# Altium integrated library Cypress PSoC 5.IntLib: 32 symbols (part 5 of 6)
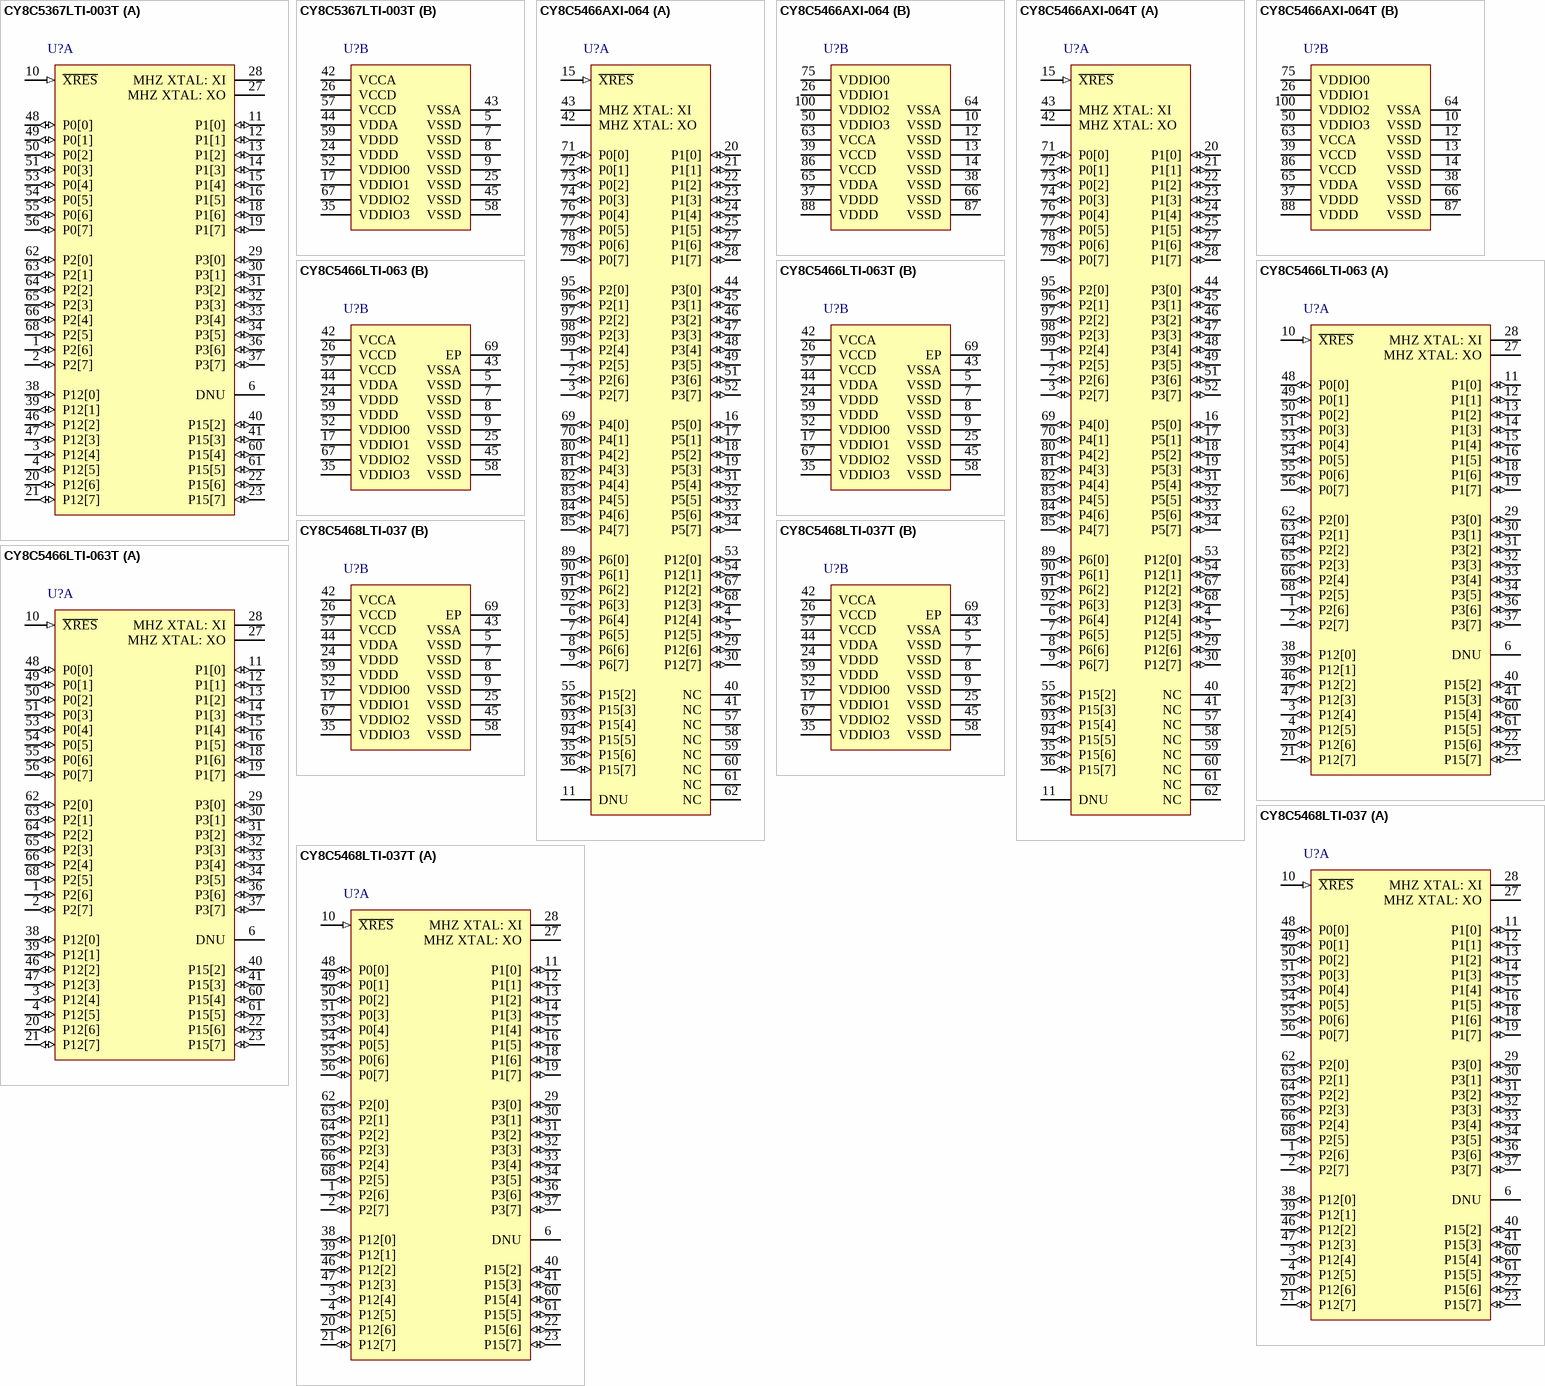
[diagram p8: symbols CY8C5367LTI-003T to CY8C5468LTI-037T]

## CY8C5466AXI-064
designator U?
PSoC Programmable System-on-Chip, 64 KB Flash, 60 GPIOs, 2.7 to 5.5 V, AX100, 100-Pin (14 × 14 × 1.4 mm) TQFP; Manufacturer: Cypress; PartNumber: CY8C5466AXI-064; CPU Core: ARM Cortex-M3; EEPROM (KB): 2; Flash (KB): 64; LCD Direct Drive: Y; Max. Operating Voltage (V): 5.5; Min. Operating Voltage (V): 2.7; No. of Dedicated Digital Filter Blocks: 1; No. of GPIOs: 60; No. of Programmable Universal Digital Blocks: 24; Packing: Tray; Rating: I; SRAM (KB): 16; DatasheetVersion: Rev. *D; PackageVersion: *D; PackageReference: AX100; PackageDescription: 100-Pin Thin Plastic Quad Flatpack, Body 14 x14 mm, Pitch 0.5 mm; Supplier 1: Digi-Key; Supplier Part Number 1: CY8C5466AXI-064-ND; Supplier 2: Farnell; Supplier Part Number 2: 2068511; Supplier 3: Newark; Supplier Part Number 3: 73T9074; Supplier 4: Mouser; Supplier Part Number 4: 727-CY8C5466AXI-064; Max. Operating Temp. (°C): 85; Min. Operating Temp. (°C): -40; Mounting Technology: Surface Mount; Code_JEDEC: MS-026; ComponentLink1Description: Manufacturer URL; ComponentLink1URL: http://www.cypress.com/; ComponentLink2Description: Datasheet; ComponentLink2URL: http://www.cypress.com/?docID=34817; ComponentLink3Description: Package Specification; ComponentLink3URL: http://www.cypress.com/?docID=35576; ComponentLink4Description: Product URL; ComponentLink4URL: http://www.cypress.com/?rID=38415
footprint CYP-AX100_N (QFN, 100-Leads, Body 14x14mm, Pitch 0.5mm, IPC Medium Density)
part A pins: 1 P2[5] (io), 2 P2[6] (io), 3 P2[7] (io), 4 P12[4] (io), 5 P12[5] (io), 6 P6[4] (io), 7 P6[5] (io), 8 P6[6] (io), 9 P6[7] (io), 11 DNU, 15 ~{XRES} (in), 16 P5[0] (io), 17 P5[1] (io), 18 P5[2] (io), 19 P5[3] (io), 20 P1[0] (io), 21 P1[1] (io), 22 P1[2] (io), 23 P1[3] (io), 24 P1[4] (io), 25 P1[5] (io), 27 P1[6] (io), 28 P1[7] (io), 29 P12[6] (io), 30 P12[7] (io), 31 P5[4] (io), 32 P5[5] (io), 33 P5[6] (io), 34 P5[7] (io), 35 P15[6] (io), 36 P15[7] (io), 40 NC, 41 NC, 42 MHZ XTAL: XO, 43 MHZ XTAL: XI, 44 P3[0] (io), 45 P3[1] (io), 46 P3[2] (io), 47 P3[3] (io), 48 P3[4] (io), 49 P3[5] (io), 51 P3[6] (io), 52 P3[7] (io), 53 P12[0] (io), 54 P12[1] (io), 55 P15[2] (io), 56 P15[3] (io), 57 NC, 58 NC, 59 NC, 60 NC, 61 NC, 62 NC, 67 P12[2] (io), 68 P12[3] (io), 69 P4[0] (io), 70 P4[1] (io), 71 P0[0] (io), 72 P0[1] (io), 73 P0[2] (io), 74 P0[3] (io), 76 P0[4] (io), 77 P0[5] (io), 78 P0[6] (io), 79 P0[7] (io), 80 P4[2] (io), 81 P4[3] (io), 82 P4[4] (io), 83 P4[5] (io), 84 P4[6] (io), 85 P4[7] (io), 89 P6[0] (io), 90 P6[1] (io), 91 P6[2] (io), 92 P6[3] (io), 93 P15[4] (io), 94 P15[5] (io), 95 P2[0] (io), 96 P2[1] (io), 97 P2[2] (io), 98 P2[3] (io), 99 P2[4] (io)
part B pins: 10 VSSD (power), 12 VSSD (power), 13 VSSD (power), 14 VSSD (power), 26 VDDIO1 (power), 37 VDDD (power), 38 VSSD (power), 39 VCCD (power), 50 VDDIO3 (power), 63 VCCA (power), 64 VSSA (power), 65 VDDA (power), 66 VSSD (power), 75 VDDIO0 (power), 86 VCCD (power), 87 VSSD (power), 88 VDDD (power), 100 VDDIO2 (power)

## CY8C5466AXI-064T
designator U?
PSoC Programmable System-on-Chip, 64 KB Flash, 60 GPIOs, 2.7 to 5.5 V, AX100, 100-Pin (14 × 14 × 1.4 mm) TQFP, Tape and Reel; Manufacturer: Cypress; PartNumber: CY8C5466AXI-064T; CPU Core: ARM Cortex-M3; EEPROM (KB): 2; Flash (KB): 64; LCD Direct Drive: Y; Max. Operating Voltage (V): 5.5; Min. Operating Voltage (V): 2.7; No. of Dedicated Digital Filter Blocks: 1; No. of GPIOs: 60; No. of Programmable Universal Digital Blocks: 24; Rating: I; SRAM (KB): 16; DatasheetVersion: Rev. *D; PackageVersion: *D; PackageReference: AX100; PackageDescription: 100-Pin Thin Plastic Quad Flatpack, Body 14 x14 mm, Pitch 0.5 mm; Supplier 1: Newark; Supplier Part Number 1: 89T5483; Supplier 2: Mouser; Supplier Part Number 2: 727-CY8C5466AXI-064T; Max. Operating Temp. (°C): 85; Min. Operating Temp. (°C): -40; Packing: Tape and Reel; Mounting Technology: Surface Mount; Code_JEDEC: MS-026; ComponentLink1Description: Manufacturer URL; ComponentLink1URL: http://www.cypress.com/; ComponentLink2Description: Datasheet; ComponentLink2URL: http://www.cypress.com/?docID=34817; ComponentLink3Description: Package Specification; ComponentLink3URL: http://www.cypress.com/?docID=35576; ComponentLink4Description: Product URL; ComponentLink4URL: http://www.cypress.com/?rID=38415
footprint CYP-AX100_N (QFN, 100-Leads, Body 14x14mm, Pitch 0.5mm, IPC Medium Density)
part A pins: 1 P2[5] (io), 2 P2[6] (io), 3 P2[7] (io), 4 P12[4] (io), 5 P12[5] (io), 6 P6[4] (io), 7 P6[5] (io), 8 P6[6] (io), 9 P6[7] (io), 11 DNU, 15 ~{XRES} (in), 16 P5[0] (io), 17 P5[1] (io), 18 P5[2] (io), 19 P5[3] (io), 20 P1[0] (io), 21 P1[1] (io), 22 P1[2] (io), 23 P1[3] (io), 24 P1[4] (io), 25 P1[5] (io), 27 P1[6] (io), 28 P1[7] (io), 29 P12[6] (io), 30 P12[7] (io), 31 P5[4] (io), 32 P5[5] (io), 33 P5[6] (io), 34 P5[7] (io), 35 P15[6] (io), 36 P15[7] (io), 40 NC, 41 NC, 42 MHZ XTAL: XO, 43 MHZ XTAL: XI, 44 P3[0] (io), 45 P3[1] (io), 46 P3[2] (io), 47 P3[3] (io), 48 P3[4] (io), 49 P3[5] (io), 51 P3[6] (io), 52 P3[7] (io), 53 P12[0] (io), 54 P12[1] (io), 55 P15[2] (io), 56 P15[3] (io), 57 NC, 58 NC, 59 NC, 60 NC, 61 NC, 62 NC, 67 P12[2] (io), 68 P12[3] (io), 69 P4[0] (io), 70 P4[1] (io), 71 P0[0] (io), 72 P0[1] (io), 73 P0[2] (io), 74 P0[3] (io), 76 P0[4] (io), 77 P0[5] (io), 78 P0[6] (io), 79 P0[7] (io), 80 P4[2] (io), 81 P4[3] (io), 82 P4[4] (io), 83 P4[5] (io), 84 P4[6] (io), 85 P4[7] (io), 89 P6[0] (io), 90 P6[1] (io), 91 P6[2] (io), 92 P6[3] (io), 93 P15[4] (io), 94 P15[5] (io), 95 P2[0] (io), 96 P2[1] (io), 97 P2[2] (io), 98 P2[3] (io), 99 P2[4] (io)
part B pins: 10 VSSD (power), 12 VSSD (power), 13 VSSD (power), 14 VSSD (power), 26 VDDIO1 (power), 37 VDDD (power), 38 VSSD (power), 39 VCCD (power), 50 VDDIO3 (power), 63 VCCA (power), 64 VSSA (power), 65 VDDA (power), 66 VSSD (power), 75 VDDIO0 (power), 86 VCCD (power), 87 VSSD (power), 88 VDDD (power), 100 VDDIO2 (power)

## CY8C5466LTI-063
designator U?
PSoC Programmable System-on-Chip, 64 KB Flash, 36 GPIOs, 2.7 to 5.5 V, 68-Pin QFN (LT68); Manufacturer: Cypress; PartNumber: CY8C5466LTI-063; CPU Core: ARM Cortex-M3; EEPROM (KB): 2; Flash (KB): 64; LCD Direct Drive: Y; Max. Operating Voltage (V): 5.5; Min. Operating Voltage (V): 2.7; No. of Dedicated Digital Filter Blocks: 1; No. of GPIOs: 36; No. of Programmable Universal Digital Blocks: 24; Packing: Tray; Rating: I; SRAM (KB): 16; DatasheetVersion: Rev. *D; PackageVersion: Rev. *E; PackageReference: LT68; PackageDescription: 68-Pin QFN, Body 8.00 x 8.00 mm, Pitch 0.40 mm; Supplier 1: Digi-Key; Supplier Part Number 1: 428-3138-ND; Supplier 2: Farnell; Supplier Part Number 2: 2082975; Supplier 3: Newark; Supplier Part Number 3: 89T5484; Supplier 4: Mouser; Supplier Part Number 4: 727-CY8C5466LTI-063; Max. Operating Temp. (°C): 85; Min. Operating Temp. (°C): -40; Mounting Technology: Surface Mount; Code_JEDEC: MO-220; ComponentLink1Description: Manufacturer URL; ComponentLink1URL: http://www.cypress.com/; ComponentLink2Description: Datasheet; ComponentLink2URL: http://www.cypress.com/?docID=34817; ComponentLink3Description: Package Specification; ComponentLink3URL: http://www.cypress.com/?docID=38892; ComponentLink4Description: Product URL; ComponentLink4URL: http://www.cypress.com/?rID=38415
footprint CYP-LT68_N (QFN, 68-Leads, Body 8x8mm, Pitch 0.4mm, Thermal Pad 5.7x5.7mm, IPC Medium Density)
part A pins: 1 P2[6] (io), 2 P2[7] (io), 3 P12[4] (io), 4 P12[5] (io), 6 DNU, 10 ~{XRES} (in) "External reset pin. Active low with internal pull-up", 11 P1[0] (io), 12 P1[1] (io), 13 P1[2] (io), 14 P1[3] (io), 15 P1[4] (io), 16 P1[5] (io), 18 P1[6] (io), 19 P1[7] (io), 20 P12[6] (io), 21 P12[7] (io), 22 P15[6] (io), 23 P15[7] (io), 27 MHZ XTAL: XO "4 to 25 MHz crystal oscillator pin. If a crystal is not used then Xi must be shorted to ground and Xo must be left floating.", 28 MHZ XTAL: XI "4 to 25 MHz crystal oscillator pin. If a crystal is not used then Xi must be shorted to ground and Xo must be left floating.", 29 P3[0] (io), 30 P3[1] (io), 31 P3[2] (io), 32 P3[3] (io), 33 P3[4] (io), 34 P3[5] (io), 36 P3[6] (io), 37 P3[7] (io), 38 P12[0] (io), 39 P12[1] (io), 40 P15[2] (io), 41 P15[3] (io), 46 P12[2] (io), 47 P12[3] (io), 48 P0[0] (io), 49 P0[1] (io), 50 P0[2] (io), 51 P0[3] (io), 53 P0[4] (io), 54 P0[5] (io), 55 P0[6] (io), 56 P0[7] (io), 60 P15[4] (io), 61 P15[5] (io), 62 P2[0] (io), 63 P2[1] (io), 64 P2[2] (io), 65 P2[3] (io), 66 P2[4] (io), 68 P2[5] (io)
part B pins: 5 VSSD (power) "Ground for all digital logic and I/O pins", 7 VSSD (power) "Ground for all digital logic and I/O pins", 8 VSSD (power) "Ground for all digital logic and I/O pins", 9 VSSD (power) "Ground for all digital logic and I/O pins", 17 VDDIO1 (power) "Supply for I/O pins. Each VDDIO must be tied to a valid operating voltage (2.7 V to 5.5 V), and must be less than or equal to Vdda.", 24 VDDD (power) "Supply for all digital peripherals and digital core regulator. VDDD must be less than or equal to VDDA", 25 VSSD (power) "Ground for all digital logic and I/O pins", 26 VCCD (power) "Output of digital core regulator and input to digital core. The two Vccd pins must be shorted together, with the trace between them as short as possible, and a 1 uF capacitor to VSSD (10 uF is required for sleep mode. See (See Datasheet)", 35 VDDIO3 (power) "Supply for I/O pins. Each VDDIO must be tied to a valid operating voltage (2.7 V to 5.5 V), and must be less than or equal to Vdda.", 42 VCCA (power) "Output of analog core regulator and input to analog core. Requires a 1 µF capacitor to VSSA (10 µF is required for sleep mode. Regulator output not for external use.", 43 VSSA (power) "Ground for all analog peripherals.", 44 VDDA (power) "Supply for all analog peripherals and analog core regulator.", 45 VSSD (power) "Ground for all digital logic and I/O pins", 52 VDDIO0 (power) "Supply for I/O pins. Each VDDIO must be tied to a valid operating voltage (2.7 V to 5.5 V), and must be less than or equal to Vdda.", 57 VCCD (power) "Output of digital core regulator and input to digital core. The two Vccd pins must be shorted together, with the trace between them as short as possible, and a 1 µF capacitor to VSSD (10 µF is 58 required for sleepmode); see (See Datasheet)", 58 VSSD (power) "Ground for all digital logic and I/O pins", 59 VDDD (power) "Supply for all digital peripherals and digital core regulator. VDDD must be less than or equal to VDDA", 67 VDDIO2 (power) "Supply for I/O pins. Each VDDIO must be tied to a valid operating voltage (2.7 V to 5.5 V), and must be less than or equal to Vdda.", 69 EP (power)

## CY8C5466LTI-063T
designator U?
PSoC Programmable System-on-Chip, 64 KB Flash, 36 GPIOs, 2.7 to 5.5 V, LT68, 68-Pin QFN, Tape and Reel; Manufacturer: Cypress; PartNumber: CY8C5466LTI-063T; CPU Core: ARM Cortex-M3; EEPROM (KB): 2; Flash (KB): 64; LCD Direct Drive: Y; Max. Operating Voltage (V): 5.5; Min. Operating Voltage (V): 2.7; No. of Dedicated Digital Filter Blocks: 1; No. of GPIOs: 36; No. of Programmable Universal Digital Blocks: 24; Rating: I; SRAM (KB): 16; DatasheetVersion: Rev. *D; PackageVersion: Rev. *E; PackageReference: LT68; PackageDescription: 68-Pin QFN, Body 8.00 x 8.00 mm, Pitch 0.40 mm; Supplier 1: Newark; Supplier Part Number 1: 89T5485; Supplier 2: Mouser; Supplier Part Number 2: 727-CY8C5466LTI-063T; Max. Operating Temp. (°C): 85; Min. Operating Temp. (°C): -40; Packing: Tape and Reel; Mounting Technology: Surface Mount; Code_JEDEC: MO-220; ComponentLink1Description: Manufacturer URL; ComponentLink1URL: http://www.cypress.com/; ComponentLink2Description: Datasheet; ComponentLink2URL: http://www.cypress.com/?docID=34817; ComponentLink3Description: Package Specification; ComponentLink3URL: http://www.cypress.com/?docID=38892; ComponentLink4Description: Product URL; ComponentLink4URL: http://www.cypress.com/?rID=38415
footprint CYP-LT68_N (QFN, 68-Leads, Body 8x8mm, Pitch 0.4mm, Thermal Pad 5.7x5.7mm, IPC Medium Density)
part A pins: 1 P2[6] (io), 2 P2[7] (io), 3 P12[4] (io), 4 P12[5] (io), 6 DNU, 10 ~{XRES} (in) "External reset pin. Active low with internal pull-up", 11 P1[0] (io), 12 P1[1] (io), 13 P1[2] (io), 14 P1[3] (io), 15 P1[4] (io), 16 P1[5] (io), 18 P1[6] (io), 19 P1[7] (io), 20 P12[6] (io), 21 P12[7] (io), 22 P15[6] (io), 23 P15[7] (io), 27 MHZ XTAL: XO "4 to 25 MHz crystal oscillator pin. If a crystal is not used then Xi must be shorted to ground and Xo must be left floating.", 28 MHZ XTAL: XI "4 to 25 MHz crystal oscillator pin. If a crystal is not used then Xi must be shorted to ground and Xo must be left floating.", 29 P3[0] (io), 30 P3[1] (io), 31 P3[2] (io), 32 P3[3] (io), 33 P3[4] (io), 34 P3[5] (io), 36 P3[6] (io), 37 P3[7] (io), 38 P12[0] (io), 39 P12[1] (io), 40 P15[2] (io), 41 P15[3] (io), 46 P12[2] (io), 47 P12[3] (io), 48 P0[0] (io), 49 P0[1] (io), 50 P0[2] (io), 51 P0[3] (io), 53 P0[4] (io), 54 P0[5] (io), 55 P0[6] (io), 56 P0[7] (io), 60 P15[4] (io), 61 P15[5] (io), 62 P2[0] (io), 63 P2[1] (io), 64 P2[2] (io), 65 P2[3] (io), 66 P2[4] (io), 68 P2[5] (io)
part B pins: 5 VSSD (power) "Ground for all digital logic and I/O pins", 7 VSSD (power) "Ground for all digital logic and I/O pins", 8 VSSD (power) "Ground for all digital logic and I/O pins", 9 VSSD (power) "Ground for all digital logic and I/O pins", 17 VDDIO1 (power) "Supply for I/O pins. Each VDDIO must be tied to a valid operating voltage (2.7 V to 5.5 V), and must be less than or equal to Vdda.", 24 VDDD (power) "Supply for all digital peripherals and digital core regulator. VDDD must be less than or equal to VDDA", 25 VSSD (power) "Ground for all digital logic and I/O pins", 26 VCCD (power) "Output of digital core regulator and input to digital core. The two Vccd pins must be shorted together, with the trace between them as short as possible, and a 1 uF capacitor to VSSD (10 uF is required for sleep mode. See (See Datasheet)", 35 VDDIO3 (power) "Supply for I/O pins. Each VDDIO must be tied to a valid operating voltage (2.7 V to 5.5 V), and must be less than or equal to Vdda.", 42 VCCA (power) "Output of analog core regulator and input to analog core. Requires a 1 µF capacitor to VSSA (10 µF is required for sleep mode. Regulator output not for external use.", 43 VSSA (power) "Ground for all analog peripherals.", 44 VDDA (power) "Supply for all analog peripherals and analog core regulator.", 45 VSSD (power) "Ground for all digital logic and I/O pins", 52 VDDIO0 (power) "Supply for I/O pins. Each VDDIO must be tied to a valid operating voltage (2.7 V to 5.5 V), and must be less than or equal to Vdda.", 57 VCCD (power) "Output of digital core regulator and input to digital core. The two Vccd pins must be shorted together, with the trace between them as short as possible, and a 1 µF capacitor to VSSD (10 µF is 58 required for sleepmode); see (See Datasheet)", 58 VSSD (power) "Ground for all digital logic and I/O pins", 59 VDDD (power) "Supply for all digital peripherals and digital core regulator. VDDD must be less than or equal to VDDA", 67 VDDIO2 (power) "Supply for I/O pins. Each VDDIO must be tied to a valid operating voltage (2.7 V to 5.5 V), and must be less than or equal to Vdda.", 69 EP (power)

## CY8C5468LTI-037
designator U?
PSoC Programmable System-on-Chip, 256 KB Flash, 36 GPIOs, 2.7 to 5.5 V, LT68, 68-Pin QFN; Manufacturer: Cypress; PartNumber: CY8C5468LTI-037; CPU Core: ARM Cortex-M3; EEPROM (KB): 2; Flash (KB): 256; LCD Direct Drive: Y; Max. Operating Voltage (V): 5.5; Min. Operating Voltage (V): 2.7; No. of Dedicated Digital Filter Blocks: 1; No. of GPIOs: 36; No. of Programmable Universal Digital Blocks: 24; Packing: Tray; Rating: I; SRAM (KB): 64; DatasheetVersion: Rev. *D; PackageVersion: Rev. *E; PackageReference: LT68; PackageDescription: 68-Pin QFN, Body 8.00 x 8.00 mm, Pitch 0.40 mm; Supplier 1: Digi-Key; Supplier Part Number 1: 428-3140-ND; Supplier 2: Farnell; Supplier Part Number 2: 2082977; Supplier 3: Newark; Supplier Part Number 3: 88T3066; Supplier 4: Newark; Supplier Part Number 4: 89T5490; Supplier 5: Mouser; Supplier Part Number 5: 727-CY8C5468LTI-037; Max. Operating Temp. (°C): 85; Min. Operating Temp. (°C): -40; Mounting Technology: Surface Mount; Code_JEDEC: MO-220; ComponentLink1Description: Manufacturer URL; ComponentLink1URL: http://www.cypress.com/; ComponentLink2Description: Datasheet; ComponentLink2URL: http://www.cypress.com/?docID=34817; ComponentLink3Description: Package Specification; ComponentLink3URL: http://www.cypress.com/?docID=38892; ComponentLink4Description: Product URL; ComponentLink4URL: http://www.cypress.com/?rID=38415
footprint CYP-LT68_N (QFN, 68-Leads, Body 8x8mm, Pitch 0.4mm, Thermal Pad 5.7x5.7mm, IPC Medium Density)
part A pins: 1 P2[6] (io), 2 P2[7] (io), 3 P12[4] (io), 4 P12[5] (io), 6 DNU, 10 ~{XRES} (in) "External reset pin. Active low with internal pull-up.", 11 P1[0] (io), 12 P1[1] (io), 13 P1[2] (io), 14 P1[3] (io), 15 P1[4] (io), 16 P1[5] (io), 18 P1[6] (io), 19 P1[7] (io), 20 P12[6] (io), 21 P12[7] (io), 22 P15[6] (io), 23 P15[7] (io), 27 MHZ XTAL: XO "4 to 25 MHz crystal oscillator pin. If a crystal is not used then Xi  must be shorted to ground and Xo must be left floating.", 28 MHZ XTAL: XI "4 to 25 MHz crystal oscillator pin. If a crystal is not used then Xi  must be shorted to ground and Xo must be left floating.", 29 P3[0] (io), 30 P3[1] (io), 31 P3[2] (io), 32 P3[3] (io), 33 P3[4] (io), 34 P3[5] (io), 36 P3[6] (io), 37 P3[7] (io), 38 P12[0] (io), 39 P12[1] (io), 40 P15[2] (io), 41 P15[3] (io), 46 P12[2] (io), 47 P12[3] (io), 48 P0[0] (io) "GPIO.General purpose I/O pin provides interfaces to the CPU, digital  peripherals, analog peripherals, interrupts, LCD segment drive, and CapSense[6].OpAmp2outHigh current output of uncommitted opamp[6].", 49 P0[1] (io) "GPIO.General purpose I/O pin provides interfaces to the CPU, digital  peripherals, analog peripherals, interrupts, LCD segment drive, and CapSense[6].OpAmp0outHigh current output of uncommitted opamp[6].", 50 P0[2] (io) "GPIO.General purpose I/O pin provides interfaces to the CPU, digital  peripherals, analog peripherals, interrupts, LCD segment drive, and CapSense[6].OpAmp0+Noninverting input to uncommitted opamp.SAR1ref.  External (See Datasheet)", 51 P0[3] (io) "GPIO.General purpose I/O pin provides interfaces to the CPU, digital  peripherals, analog peripherals, interrupts, LCD segment drive, and CapSense[6].OpAmp0-Inverting input to uncommitted opamp. Extref1External reference (See Datasheet)", 53 P0[4] (io), 54 P0[5] (io), 55 P0[6] (io), 56 P0[7] (io), 60 P15[4] (io), 61 P15[5] (io), 62 P2[0] (io), 63 P2[1] (io), 64 P2[2] (io), 65 P2[3] (io), 66 P2[4] (io), 68 P2[5] (io)
part B pins: 5 VSSD (power) "Ground for all digital logic and I/O pins.", 7 VSSD (power) "Ground for all digital logic and I/O pins.", 8 VSSD (power) "Ground for all digital logic and I/O pins.", 9 VSSD (power) "Ground for all digital logic and I/O pins.", 17 VDDIO1 (power) "Supply for I/O pins. Each VDDIO must be tied to a valid operating  voltage (2.7 V to 5.5 V), and must be less than or equal to Vdda.", 24 VDDD (power) "Supply for all digital peripherals and digital core regulator. VDDD must be less than or equal to VDDA.", 25 VSSD (power) "Ground for all digital logic and I/O pins.", 26 VCCD (power) "Output of digital core regulator and input to digital core. The two  Vccd pins must be shorted together, with the trace between them  as short as possible, and a 1 µF capacitor to VSSD  (10 µF is  required for sleep mode.)", 35 VDDIO3 (power) "Supply for I/O pins. Each VDDIO must be tied to a valid operating  voltage (2.7 V to 5.5 V), and must be less than or equal to Vdda.", 42 VCCA (power) "Output of analog core regulator and input to analog core.  Requires a 1 µF capacitor to VSSA (10 µF is required for sleep  mode. )", 43 VSSA (power) "Ground for all analog peripherals.", 44 VDDA (power) "Supply for all analog peripherals and analog core regulator.  VDDA must be the highest voltage present on the device. All  other supply pins must be less than or equal to VDDA.", 45 VSSD (power) "Ground for all digital logic and I/O pins.", 52 VDDIO0 (power) "Supply for I/O pins. Each VDDIO must be tied to a valid operating  voltage (2.7 V to 5.5 V), and must be less than or equal to Vdda.", 57 VCCD (power) "Output of digital core regulator and input to digital core. The two Vccd pins must be shorted together, with the trace between them as short as possible, and a 1 µF capacitor to VSSD (10 µF is required for sleep mode. See (See Datasheet)", 58 VSSD (power) "Ground for all digital logic and I/O pins", 59 VDDD (power) "Supply for all digital peripherals and digital core regulator. VDDD must be less than or equal to VDDA.", 67 VDDIO2 (power) "Supply for I/O pins. Each VDDIO must be tied to a valid operating  voltage (2.7 V to 5.5 V), and must be less than or equal to Vdda.", 69 EP (power) "The center pad on the QFN package should be connected to digital ground (VSSD) for best mechanical, thermal, and electrical performance. If not connected to  ground, it should be electrically floated and not connected to any (See Datasheet)"

## CY8C5468LTI-037T
designator U?
PSoC Programmable System-on-Chip, 256 KB Flash, 36 GPIOs, 2.7 to 5.5 V, LT68, 68-Pin QFN, Tape and Reel; Manufacturer: Cypress; PartNumber: CY8C5468LTI-037T; CPU Core: ARM Cortex-M3; EEPROM (KB): 2; Flash (KB): 256; LCD Direct Drive: Y; Max. Operating Voltage (V): 5.5; Min. Operating Voltage (V): 2.7; No. of Dedicated Digital Filter Blocks: 1; No. of GPIOs: 36; No. of Programmable Universal Digital Blocks: 24; Rating: I; SRAM (KB): 64; DatasheetVersion: Rev. *D; PackageVersion: Rev. *E; PackageReference: LT68; PackageDescription: 68-Pin QFN, Body 8.00 x 8.00 mm, Pitch 0.40 mm; Supplier 1: Newark; Supplier Part Number 1: 89T5491; Supplier 2: Mouser; Supplier Part Number 2: 727-CY8C5468LTI-037T; Max. Operating Temp. (°C): 85; Min. Operating Temp. (°C): -40; Packing: Tape and Reel; Mounting Technology: Surface Mount; Code_JEDEC: MO-220; ComponentLink1Description: Manufacturer URL; ComponentLink1URL: http://www.cypress.com/; ComponentLink2Description: Datasheet; ComponentLink2URL: http://www.cypress.com/?docID=34817; ComponentLink3Description: Package Specification; ComponentLink3URL: http://www.cypress.com/?docID=38892; ComponentLink4Description: Product URL; ComponentLink4URL: http://www.cypress.com/?rID=38415
footprint CYP-LT68_N (QFN, 68-Leads, Body 8x8mm, Pitch 0.4mm, Thermal Pad 5.7x5.7mm, IPC Medium Density)
part A pins: 1 P2[6] (io), 2 P2[7] (io), 3 P12[4] (io), 4 P12[5] (io), 6 DNU, 10 ~{XRES} (in) "External reset pin. Active low with internal pull-up.", 11 P1[0] (io), 12 P1[1] (io), 13 P1[2] (io), 14 P1[3] (io), 15 P1[4] (io), 16 P1[5] (io), 18 P1[6] (io), 19 P1[7] (io), 20 P12[6] (io), 21 P12[7] (io), 22 P15[6] (io), 23 P15[7] (io), 27 MHZ XTAL: XO "4 to 25 MHz crystal oscillator pin. If a crystal is not used then Xi  must be shorted to ground and Xo must be left floating.", 28 MHZ XTAL: XI "4 to 25 MHz crystal oscillator pin. If a crystal is not used then Xi  must be shorted to ground and Xo must be left floating.", 29 P3[0] (io), 30 P3[1] (io), 31 P3[2] (io), 32 P3[3] (io), 33 P3[4] (io), 34 P3[5] (io), 36 P3[6] (io), 37 P3[7] (io), 38 P12[0] (io), 39 P12[1] (io), 40 P15[2] (io), 41 P15[3] (io), 46 P12[2] (io), 47 P12[3] (io), 48 P0[0] (io) "GPIO.General purpose I/O pin provides interfaces to the CPU, digital  peripherals, analog peripherals, interrupts, LCD segment drive, and CapSense[6].OpAmp2outHigh current output of uncommitted opamp[6].", 49 P0[1] (io) "GPIO.General purpose I/O pin provides interfaces to the CPU, digital  peripherals, analog peripherals, interrupts, LCD segment drive, and CapSense[6].OpAmp0outHigh current output of uncommitted opamp[6].", 50 P0[2] (io) "GPIO.General purpose I/O pin provides interfaces to the CPU, digital  peripherals, analog peripherals, interrupts, LCD segment drive, and CapSense[6].OpAmp0+Noninverting input to uncommitted opamp.SAR1ref.  External (See Datasheet)", 51 P0[3] (io) "GPIO.General purpose I/O pin provides interfaces to the CPU, digital  peripherals, analog peripherals, interrupts, LCD segment drive, and CapSense[6].OpAmp0-Inverting input to uncommitted opamp. Extref1External reference (See Datasheet)", 53 P0[4] (io), 54 P0[5] (io), 55 P0[6] (io), 56 P0[7] (io), 60 P15[4] (io), 61 P15[5] (io), 62 P2[0] (io), 63 P2[1] (io), 64 P2[2] (io), 65 P2[3] (io), 66 P2[4] (io), 68 P2[5] (io)
part B pins: 5 VSSD (power) "Ground for all digital logic and I/O pins.", 7 VSSD (power) "Ground for all digital logic and I/O pins.", 8 VSSD (power) "Ground for all digital logic and I/O pins.", 9 VSSD (power) "Ground for all digital logic and I/O pins.", 17 VDDIO1 (power) "Supply for I/O pins. Each VDDIO must be tied to a valid operating  voltage (2.7 V to 5.5 V), and must be less than or equal to Vdda.", 24 VDDD (power) "Supply for all digital peripherals and digital core regulator. VDDD must be less than or equal to VDDA.", 25 VSSD (power) "Ground for all digital logic and I/O pins.", 26 VCCD (power) "Output of digital core regulator and input to digital core. The two  Vccd pins must be shorted together, with the trace between them  as short as possible, and a 1 µF capacitor to VSSD  (10 µF is  required for sleep mode.)", 35 VDDIO3 (power) "Supply for I/O pins. Each VDDIO must be tied to a valid operating  voltage (2.7 V to 5.5 V), and must be less than or equal to Vdda.", 42 VCCA (power) "Output of analog core regulator and input to analog core.  Requires a 1 µF capacitor to VSSA (10 µF is required for sleep  mode. )", 43 VSSA (power) "Ground for all analog peripherals.", 44 VDDA (power) "Supply for all analog peripherals and analog core regulator.  VDDA must be the highest voltage present on the device. All  other supply pins must be less than or equal to VDDA.", 45 VSSD (power) "Ground for all digital logic and I/O pins.", 52 VDDIO0 (power) "Supply for I/O pins. Each VDDIO must be tied to a valid operating  voltage (2.7 V to 5.5 V), and must be less than or equal to Vdda.", 57 VCCD (power) "Output of digital core regulator and input to digital core. The two Vccd pins must be shorted together, with the trace between them as short as possible, and a 1 µF capacitor to VSSD (10 µF is required for sleep mode. See (See Datasheet)", 58 VSSD (power) "Ground for all digital logic and I/O pins", 59 VDDD (power) "Supply for all digital peripherals and digital core regulator. VDDD must be less than or equal to VDDA.", 67 VDDIO2 (power) "Supply for I/O pins. Each VDDIO must be tied to a valid operating  voltage (2.7 V to 5.5 V), and must be less than or equal to Vdda.", 69 EP (power) "The center pad on the QFN package should be connected to digital ground (VSSD) for best mechanical, thermal, and electrical performance. If not connected to  ground, it should be electrically floated and not connected to any (See Datasheet)"

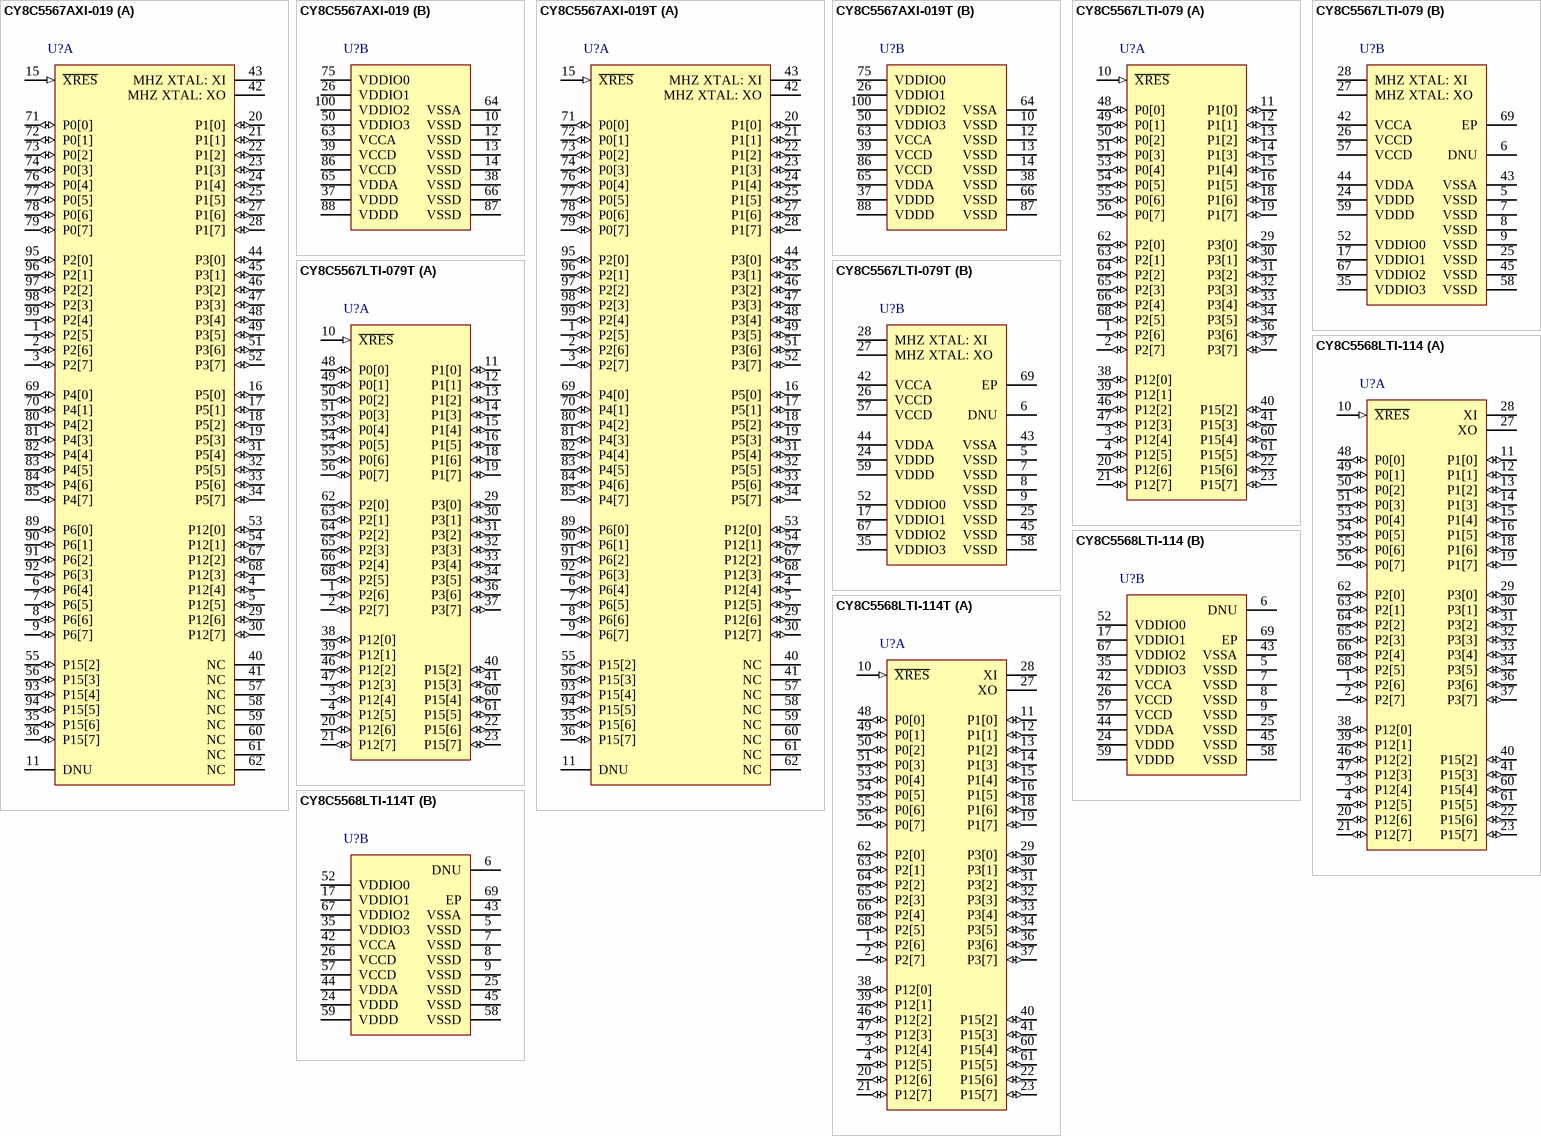
[diagram p4: symbols CY8C5567AXI-019 to CY8C5568LTI-114T]

## CY8C5567AXI-019
designator U?
PSoC Programmable System-on-Chip, 128 KB Flash, 60 GPIOs, 2.7 to 5.5 V, AX100, 100-Pin (14 × 14 × 1.4 mm) TQFP; Manufacturer: Cypress; PartNumber: CY8C5567AXI-019; CPU Core: ARM Cortex-M3; EEPROM (KB): 2; Flash (KB): 128; LCD Direct Drive: Y; Max. Operating Voltage (V): 5.5; Min. Operating Voltage (V): 2.7; No. of Dedicated Digital Filter Blocks: 1; No. of GPIOs: 60; No. of Programmable Universal Digital Blocks: 24; Packing: Tray; Rating: I; SRAM (KB): 32; DatasheetVersion: Rev. *D; PackageVersion: *D; PackageReference: AX100; PackageDescription: 100-Pin Thin Plastic Quad Flatpack, Body 14 x14 mm, Pitch 0.5 mm; Supplier 1: Digi-Key; Supplier Part Number 1: CY8C5567AXI-019-ND; Supplier 2: Farnell; Supplier Part Number 2: 2068516; Supplier 3: Mouser; Supplier Part Number 3: 727-CY8C5567AXI-019; Max. Operating Temp. (°C): 85; Min. Operating Temp. (°C): -40; Mounting Technology: Surface Mount; Code_JEDEC: MS-026; ComponentLink1Description: Manufacturer URL; ComponentLink1URL: http://www.cypress.com/; ComponentLink2Description: Datasheet; ComponentLink2URL: http://www.cypress.com/?docID=34815; ComponentLink3Description: Package Specification; ComponentLink3URL: http://www.cypress.com/?docID=35576; ComponentLink4Description: Product URL; ComponentLink4URL: http://www.cypress.com/?rID=37581
footprint CYP-AX100_N (QFN, 100-Leads, Body 14x14mm, Pitch 0.5mm, IPC Medium Density)
part A pins: 1 P2[5] (io), 2 P2[6] (io), 3 P2[7] (io), 4 P12[4] (io), 5 P12[5] (io), 6 P6[4] (io), 7 P6[5] (io), 8 P6[6] (io), 9 P6[7] (io), 11 DNU "Do not use.", 15 ~{XRES} (in) "External reset pin. Active low with internal pull-up.", 16 P5[0] (io), 17 P5[1] (io), 18 P5[2] (io), 19 P5[3] (io), 20 P1[0] (io), 21 P1[1] (io), 22 P1[2] (io), 23 P1[3] (io), 24 P1[4] (io), 25 P1[5] (io), 27 P1[6] (io), 28 P1[7] (io), 29 P12[6] (io), 30 P12[7] (io), 31 P5[4] (io), 32 P5[5] (io), 33 P5[6] (io), 34 P5[7] (io), 35 P15[6] (io), 36 P15[7] (io), 40 NC, 41 NC, 42 MHZ XTAL: XO "4 to 25 MHz crystal oscillator  pin. If a crystal is not used, then Xi must be shorted to ground  and Xo must be left floating.", 43 MHZ XTAL: XI "4 to 25 MHz crystal oscillator  pin. If a crystal is not used, then Xi must be shorted to ground  and Xo must be left floating.", 44 P3[0] (io), 45 P3[1] (io), 46 P3[2] (io), 47 P3[3] (io), 48 P3[4] (io), 49 P3[5] (io), 51 P3[6] (io), 52 P3[7] (io), 53 P12[0] (io), 54 P12[1] (io), 55 P15[2] (io), 56 P15[3] (io), 57 NC, 58 NC, 59 NC, 60 NC, 61 NC, 62 NC, 67 P12[2] (io), 68 P12[3] (io), 69 P4[0] (io), 70 P4[1] (io), 71 P0[0] (io), 72 P0[1] (io), 73 P0[2] (io), 74 P0[3] (io), 76 P0[4] (io), 77 P0[5] (io), 78 P0[6] (io), 79 P0[7] (io), 80 P4[2] (io), 81 P4[3] (io), 82 P4[4] (io), 83 P4[5] (io), 84 P4[6] (io), 85 P4[7] (io), 89 P6[0] (io), 90 P6[1] (io), 91 P6[2] (io), 92 P6[3] (io), 93 P15[4] (io), 94 P15[5] (io), 95 P2[0] (io), 96 P2[1] (io), 97 P2[2] (io), 98 P2[3] (io), 99 P2[4] (io)
part B pins: 10 VSSD (power) "Ground for all digital logic and I/O pins.", 12 VSSD (power) "Ground for all digital logic and I/O pins.", 13 VSSD (power) "Ground for all digital logic and I/O pins.", 14 VSSD (power) "Ground for all digital logic and I/O pins.", 26 VDDIO1 (power) "Supply for I/O pins. Each  VDDIO must be tied to a valid operating voltage (2.7 V to 5.5 V),  and must be less than or equal to VDDA.", 37 VDDD (power) "Supply for all digital peripherals and digital core  regulator. VDDD must be less than or equal to VDDA.", 38 VSSD (power) "Ground for all digital logic and I/O pins.", 39 VCCD (power) "Output of digital core regulator and input to digital core.  The two VCCD pins must be shorted together, with the trace  between them as short as possible, and a 1 µF capacitor to  VSSD (10 µF is required for sleep mode.)", 50 VDDIO3 (power) "Supply for I/O pins. Each  VDDIO must be tied to a valid operating voltage (2.7 V to 5.5 V),  and must be less than or equal to VDDA.", 63 VCCA (power) "Output of analog core regulator and input to analog core.  Requires a 1 µF capacitor to VSSA (10 µF is required for sleep  mode. )", 64 VSSA (power) "Ground for all analog peripherals.", 65 VDDA (power) "Supply for all analog peripherals and analog core  regulator. VDDA must be the highest voltage present on the  device. All other supply pins must be less than or equal to  VDDA.", 66 VSSD (power) "Ground for all digital logic and I/O pins.", 75 VDDIO0 (power) "Supply for I/O pins. Each  VDDIO must be tied to a valid operating voltage (2.7 V to 5.5 V),  and must be less than or equal to VDDA.", 86 VCCD (power) "Output of digital core regulator and input to digital core.  The two VCCD pins must be shorted together, with the trace  between them as short as possible, and a 1 µF capacitor to  VSSD (10 µF is required for sleep mode.)", 87 VSSD (power) "Ground for all digital logic and I/O pins.", 88 VDDD (power) "Supply for all digital peripherals and digital core  regulator. VDDD must be less than or equal to VDDA.", 100 VDDIO2 (power) "Supply for I/O pins. Each  VDDIO must be tied to a valid operating voltage (2.7 V to 5.5 V),  and must be less than or equal to VDDA."

## CY8C5567AXI-019T
designator U?
PSoC Programmable System-on-Chip, 128 KB Flash, 60 GPIOs, 2.7 to 5.5 V, AX100, 100-Pin (14 × 14 × 1.4 mm) TQFP, Tape and Reel; Manufacturer: Cypress; PartNumber: CY8C5567AXI-019T; CPU Core: ARM Cortex-M3; EEPROM (KB): 2; Flash (KB): 128; LCD Direct Drive: Y; Max. Operating Voltage (V): 5.5; Min. Operating Voltage (V): 2.7; No. of Dedicated Digital Filter Blocks: 1; No. of GPIOs: 60; No. of Programmable Universal Digital Blocks: 24; Rating: I; SRAM (KB): 32; DatasheetVersion: Rev. *D; PackageVersion: *D; PackageReference: AX100; PackageDescription: 100-Pin Thin Plastic Quad Flatpack, Body 14 x14 mm, Pitch 0.5 mm; Supplier 1: Newark; Supplier Part Number 1: 89T5495; Supplier 2: Mouser; Supplier Part Number 2: 727-CY8C5567AXI-019T; Max. Operating Temp. (°C): 85; Min. Operating Temp. (°C): -40; Packing: Tape and Reel; Mounting Technology: Surface Mount; Code_JEDEC: MS-026; ComponentLink1Description: Manufacturer URL; ComponentLink1URL: http://www.cypress.com/; ComponentLink2Description: Datasheet; ComponentLink2URL: http://www.cypress.com/?docID=34815; ComponentLink3Description: Package Specification; ComponentLink3URL: http://www.cypress.com/?docID=35576; ComponentLink4Description: Product URL; ComponentLink4URL: http://www.cypress.com/?rID=37581
footprint CYP-AX100_N (QFN, 100-Leads, Body 14x14mm, Pitch 0.5mm, IPC Medium Density)
part A pins: 1 P2[5] (io), 2 P2[6] (io), 3 P2[7] (io), 4 P12[4] (io), 5 P12[5] (io), 6 P6[4] (io), 7 P6[5] (io), 8 P6[6] (io), 9 P6[7] (io), 11 DNU "Do not use.", 15 ~{XRES} (in) "External reset pin. Active low with internal pull-up.", 16 P5[0] (io), 17 P5[1] (io), 18 P5[2] (io), 19 P5[3] (io), 20 P1[0] (io), 21 P1[1] (io), 22 P1[2] (io), 23 P1[3] (io), 24 P1[4] (io), 25 P1[5] (io), 27 P1[6] (io), 28 P1[7] (io), 29 P12[6] (io), 30 P12[7] (io), 31 P5[4] (io), 32 P5[5] (io), 33 P5[6] (io), 34 P5[7] (io), 35 P15[6] (io), 36 P15[7] (io), 40 NC, 41 NC, 42 MHZ XTAL: XO "4 to 25 MHz crystal oscillator  pin. If a crystal is not used, then Xi must be shorted to ground  and Xo must be left floating.", 43 MHZ XTAL: XI "4 to 25 MHz crystal oscillator  pin. If a crystal is not used, then Xi must be shorted to ground  and Xo must be left floating.", 44 P3[0] (io), 45 P3[1] (io), 46 P3[2] (io), 47 P3[3] (io), 48 P3[4] (io), 49 P3[5] (io), 51 P3[6] (io), 52 P3[7] (io), 53 P12[0] (io), 54 P12[1] (io), 55 P15[2] (io), 56 P15[3] (io), 57 NC, 58 NC, 59 NC, 60 NC, 61 NC, 62 NC, 67 P12[2] (io), 68 P12[3] (io), 69 P4[0] (io), 70 P4[1] (io), 71 P0[0] (io), 72 P0[1] (io), 73 P0[2] (io), 74 P0[3] (io), 76 P0[4] (io), 77 P0[5] (io), 78 P0[6] (io), 79 P0[7] (io), 80 P4[2] (io), 81 P4[3] (io), 82 P4[4] (io), 83 P4[5] (io), 84 P4[6] (io), 85 P4[7] (io), 89 P6[0] (io), 90 P6[1] (io), 91 P6[2] (io), 92 P6[3] (io), 93 P15[4] (io), 94 P15[5] (io), 95 P2[0] (io), 96 P2[1] (io), 97 P2[2] (io), 98 P2[3] (io), 99 P2[4] (io)
part B pins: 10 VSSD (power) "Ground for all digital logic and I/O pins.", 12 VSSD (power) "Ground for all digital logic and I/O pins.", 13 VSSD (power) "Ground for all digital logic and I/O pins.", 14 VSSD (power) "Ground for all digital logic and I/O pins.", 26 VDDIO1 (power) "Supply for I/O pins. Each  VDDIO must be tied to a valid operating voltage (2.7 V to 5.5 V),  and must be less than or equal to VDDA.", 37 VDDD (power) "Supply for all digital peripherals and digital core  regulator. VDDD must be less than or equal to VDDA.", 38 VSSD (power) "Ground for all digital logic and I/O pins.", 39 VCCD (power) "Output of digital core regulator and input to digital core.  The two VCCD pins must be shorted together, with the trace  between them as short as possible, and a 1 µF capacitor to  VSSD (10 µF is required for sleep mode.)", 50 VDDIO3 (power) "Supply for I/O pins. Each  VDDIO must be tied to a valid operating voltage (2.7 V to 5.5 V),  and must be less than or equal to VDDA.", 63 VCCA (power) "Output of analog core regulator and input to analog core.  Requires a 1 µF capacitor to VSSA (10 µF is required for sleep  mode. )", 64 VSSA (power) "Ground for all analog peripherals.", 65 VDDA (power) "Supply for all analog peripherals and analog core  regulator. VDDA must be the highest voltage present on the  device. All other supply pins must be less than or equal to  VDDA.", 66 VSSD (power) "Ground for all digital logic and I/O pins.", 75 VDDIO0 (power) "Supply for I/O pins. Each  VDDIO must be tied to a valid operating voltage (2.7 V to 5.5 V),  and must be less than or equal to VDDA.", 86 VCCD (power) "Output of digital core regulator and input to digital core.  The two VCCD pins must be shorted together, with the trace  between them as short as possible, and a 1 µF capacitor to  VSSD (10 µF is required for sleep mode.)", 87 VSSD (power) "Ground for all digital logic and I/O pins.", 88 VDDD (power) "Supply for all digital peripherals and digital core  regulator. VDDD must be less than or equal to VDDA.", 100 VDDIO2 (power) "Supply for I/O pins. Each  VDDIO must be tied to a valid operating voltage (2.7 V to 5.5 V),  and must be less than or equal to VDDA."

## CY8C5567LTI-079
designator U?
PSoC Programmable System-on-Chip, 128 KB Flash, 36 GPIOs, 2.7 to 5.5 V, 68-Pin QFN (LT68); Manufacturer: Cypress; PartNumber: CY8C5567LTI-079; CPU Core: ARM Cortex-M3; EEPROM (KB): 2; Flash (KB): 128; LCD Direct Drive: Y; Max. Operating Voltage (V): 5.5; Min. Operating Voltage (V): 2.7; No. of Dedicated Digital Filter Blocks: 1; No. of GPIOs: 36; No. of Programmable Universal Digital Blocks: 24; Packing: Tray; Rating: I; SRAM (KB): 32; DatasheetVersion: Rev. *D; PackageVersion: Rev. *E; PackageReference: LT68; PackageDescription: 68-Pin QFN, Body 8.00 x 8.00 mm, Pitch 0.40 mm; Supplier 1: Digi-Key; Supplier Part Number 1: 428-3142-ND; Supplier 2: Farnell; Supplier Part Number 2: 2082979; Supplier 3: Newark; Supplier Part Number 3: 88T3068; Supplier 4: Newark; Supplier Part Number 4: 89T5496; Supplier 5: Mouser; Supplier Part Number 5: 727-CY8C5567LTI-079; Max. Operating Temp. (°C): 85; Min. Operating Temp. (°C): -40; Mounting Technology: Surface Mount; Code_JEDEC: MO-220; ComponentLink1Description: Manufacturer URL; ComponentLink1URL: http://www.cypress.com/; ComponentLink2Description: Datasheet; ComponentLink2URL: http://www.cypress.com/?docID=34815; ComponentLink3Description: Package Specification; ComponentLink3URL: http://www.cypress.com/?docID=38892; ComponentLink4Description: Product URL; ComponentLink4URL: http://www.cypress.com/?rID=37581
footprint CYP-LT68_N (QFN, 68-Leads, Body 8x8mm, Pitch 0.4mm, Thermal Pad 5.7x5.7mm, IPC Medium Density)
part A pins: 1 P2[6] (io), 2 P2[7] (io), 3 P12[4] (io), 4 P12[5] (io), 10 ~{XRES} (in) "External reset pin. Active low with internal pull-up.", 11 P1[0] (io), 12 P1[1] (io), 13 P1[2] (io), 14 P1[3] (io), 15 P1[4] (io), 16 P1[5] (io), 18 P1[6] (io), 19 P1[7] (io), 20 P12[6] (io), 21 P12[7] (io), 22 P15[6] (io), 23 P15[7] (io), 29 P3[0] (io), 30 P3[1] (io), 31 P3[2] (io), 32 P3[3] (io), 33 P3[4] (io), 34 P3[5] (io), 36 P3[6] (io), 37 P3[7] (io), 38 P12[0] (io), 39 P12[1] (io), 40 P15[2] (io), 41 P15[3] (io), 46 P12[2] (io), 47 P12[3] (io), 48 P0[0] (io), 49 P0[1] (io), 50 P0[2] (io), 51 P0[3] (io), 53 P0[4] (io), 54 P0[5] (io), 55 P0[6] (io), 56 P0[7] (io), 60 P15[4] (io), 61 P15[5] (io), 62 P2[0] (io), 63 P2[1] (io), 64 P2[2] (io), 65 P2[3] (io), 66 P2[4] (io), 68 P2[5] (io)
part B pins: 5 VSSD (power) "Ground for all digital logic and I/O pins.", 6 DNU, 7 VSSD (power) "Ground for all digital logic and I/O pins.", 8 VSSD (power) "Ground for all digital logic and I/O pins.", 9 VSSD (power) "Ground for all digital logic and I/O pins.", 17 VDDIO1 (power) "Supply for I/O pins. Each  VDDIO must be tied to a valid operating voltage (2.7 V to 5.5 V),  and must be less than or equal to VDDA.", 24 VDDD (power) "Supply for all digital peripherals and digital core  regulator. VDDD must be less than or equal to VDDA.", 25 VSSD (power) "Ground for all digital logic and I/O pins.", 26 VCCD (power) "Output of digital core regulator and input to digital core.  The two VCCD pins must be shorted together, with the trace  between them as short as possible, and a 1 µF capacitor to  VSSD (10 µF is required for sleep mode. See (See Datasheet)", 27 MHZ XTAL: XO "4 to 25 MHz crystal oscillator  pin. If a crystal is not used, then Xi must be shorted to ground  and Xo must be left floating.", 28 MHZ XTAL: XI "4 to 25 MHz crystal oscillator  pin. If a crystal is not used, then Xi must be shorted to ground  and Xo must be left floating.", 35 VDDIO3 (power) "Supply for I/O pins. Each  VDDIO must be tied to a valid operating voltage (2.7 V to 5.5 V),  and must be less than or equal to VDDA.", 42 VCCA (power) "Output of analog core regulator and input to analog core.  Requires a 1 µF capacitor to VSSA (10 µF is required for sleep  mode. )", 43 VSSA (power) "Ground for all analog peripherals.", 44 VDDA (power) "Supply for all analog peripherals and analog core  regulator. VDDA must be the highest voltage present on the  device. All other supply pins must be less than or equal to  VDDA.", 45 VSSD (power) "Ground for all digital logic and I/O pins.", 52 VDDIO0 (power) "Supply for I/O pins. Each  VDDIO must be tied to a valid operating voltage (2.7 V to 5.5 V),  and must be less than or equal to VDDA.", 57 VCCD (power) "Output of digital core regulator and input to digital core.  The two VCCD pins must be shorted together, with the trace  between them as short as possible, and a 1 µF capacitor to  VSSD (10 µF is required for sleep mode. )", 58 VSSD (power) "Ground for all digital logic and I/O pins.", 59 VDDD (power) "Supply for all digital peripherals and digital core  regulator. VDDD must be less than or equal to VDDA.", 67 VDDIO2 (power) "Supply for I/O pins. Each  VDDIO must be tied to a valid operating voltage (2.7 V to 5.5 V),  and must be less than or equal to VDDA.", 69 EP (power) "The center pad on the QFN package should be connected to digital ground (VSSD) for best mechanical, thermal, and electrical performance. If not connected to  ground, it should be electrically floated and not connected to any (See Datasheet)"

## CY8C5567LTI-079T
designator U?
PSoC Programmable System-on-Chip, 128 KB Flash, 36 GPIOs, 2.7 to 5.5 V, 68-Pin QFN (LT68), Tape and Reel; Manufacturer: Cypress; PartNumber: CY8C5567LTI-079T; CPU Core: ARM Cortex-M3; EEPROM (KB): 2; Flash (KB): 128; LCD Direct Drive: Y; Max. Operating Voltage (V): 5.5; Min. Operating Voltage (V): 2.7; No. of Dedicated Digital Filter Blocks: 1; No. of GPIOs: 36; No. of Programmable Universal Digital Blocks: 24; Rating: I; SRAM (KB): 32; DatasheetVersion: Rev. *D; PackageVersion: Rev. *E; PackageReference: LT68; PackageDescription: 68-Pin QFN, Body 8.00 x 8.00 mm, Pitch 0.40 mm; Supplier 1: Newark; Supplier Part Number 1: 89T5497; Supplier 2: Mouser; Supplier Part Number 2: 727-CY8C5567LTI-079T; Max. Operating Temp. (°C): 85; Min. Operating Temp. (°C): -40; Packing: Tape and Reel; Mounting Technology: Surface Mount; Code_JEDEC: MO-220; ComponentLink1Description: Manufacturer URL; ComponentLink1URL: http://www.cypress.com/; ComponentLink2Description: Datasheet; ComponentLink2URL: http://www.cypress.com/?docID=34815; ComponentLink3Description: Package Specification; ComponentLink3URL: http://www.cypress.com/?docID=38892; ComponentLink4Description: Product URL; ComponentLink4URL: http://www.cypress.com/?rID=37581
footprint CYP-LT68_N (QFN, 68-Leads, Body 8x8mm, Pitch 0.4mm, Thermal Pad 5.7x5.7mm, IPC Medium Density)
part A pins: 1 P2[6] (io), 2 P2[7] (io), 3 P12[4] (io), 4 P12[5] (io), 10 ~{XRES} (in) "External reset pin. Active low with internal pull-up.", 11 P1[0] (io), 12 P1[1] (io), 13 P1[2] (io), 14 P1[3] (io), 15 P1[4] (io), 16 P1[5] (io), 18 P1[6] (io), 19 P1[7] (io), 20 P12[6] (io), 21 P12[7] (io), 22 P15[6] (io), 23 P15[7] (io), 29 P3[0] (io), 30 P3[1] (io), 31 P3[2] (io), 32 P3[3] (io), 33 P3[4] (io), 34 P3[5] (io), 36 P3[6] (io), 37 P3[7] (io), 38 P12[0] (io), 39 P12[1] (io), 40 P15[2] (io), 41 P15[3] (io), 46 P12[2] (io), 47 P12[3] (io), 48 P0[0] (io), 49 P0[1] (io), 50 P0[2] (io), 51 P0[3] (io), 53 P0[4] (io), 54 P0[5] (io), 55 P0[6] (io), 56 P0[7] (io), 60 P15[4] (io), 61 P15[5] (io), 62 P2[0] (io), 63 P2[1] (io), 64 P2[2] (io), 65 P2[3] (io), 66 P2[4] (io), 68 P2[5] (io)
part B pins: 5 VSSD (power) "Ground for all digital logic and I/O pins.", 6 DNU, 7 VSSD (power) "Ground for all digital logic and I/O pins.", 8 VSSD (power) "Ground for all digital logic and I/O pins.", 9 VSSD (power) "Ground for all digital logic and I/O pins.", 17 VDDIO1 (power) "Supply for I/O pins. Each  VDDIO must be tied to a valid operating voltage (2.7 V to 5.5 V),  and must be less than or equal to VDDA.", 24 VDDD (power) "Supply for all digital peripherals and digital core  regulator. VDDD must be less than or equal to VDDA.", 25 VSSD (power) "Ground for all digital logic and I/O pins.", 26 VCCD (power) "Output of digital core regulator and input to digital core.  The two VCCD pins must be shorted together, with the trace  between them as short as possible, and a 1 µF capacitor to  VSSD (10 µF is required for sleep mode. See (See Datasheet)", 27 MHZ XTAL: XO "4 to 25 MHz crystal oscillator  pin. If a crystal is not used, then Xi must be shorted to ground  and Xo must be left floating.", 28 MHZ XTAL: XI "4 to 25 MHz crystal oscillator  pin. If a crystal is not used, then Xi must be shorted to ground  and Xo must be left floating.", 35 VDDIO3 (power) "Supply for I/O pins. Each  VDDIO must be tied to a valid operating voltage (2.7 V to 5.5 V),  and must be less than or equal to VDDA.", 42 VCCA (power) "Output of analog core regulator and input to analog core.  Requires a 1 µF capacitor to VSSA (10 µF is required for sleep  mode. )", 43 VSSA (power) "Ground for all analog peripherals.", 44 VDDA (power) "Supply for all analog peripherals and analog core  regulator. VDDA must be the highest voltage present on the  device. All other supply pins must be less than or equal to  VDDA.", 45 VSSD (power) "Ground for all digital logic and I/O pins.", 52 VDDIO0 (power) "Supply for I/O pins. Each  VDDIO must be tied to a valid operating voltage (2.7 V to 5.5 V),  and must be less than or equal to VDDA.", 57 VCCD (power) "Output of digital core regulator and input to digital core.  The two VCCD pins must be shorted together, with the trace  between them as short as possible, and a 1 µF capacitor to  VSSD (10 µF is required for sleep mode. )", 58 VSSD (power) "Ground for all digital logic and I/O pins.", 59 VDDD (power) "Supply for all digital peripherals and digital core  regulator. VDDD must be less than or equal to VDDA.", 67 VDDIO2 (power) "Supply for I/O pins. Each  VDDIO must be tied to a valid operating voltage (2.7 V to 5.5 V),  and must be less than or equal to VDDA.", 69 EP (power) "The center pad on the QFN package should be connected to digital ground (VSSD) for best mechanical, thermal, and electrical performance. If not connected to  ground, it should be electrically floated and not connected to any (See Datasheet)"